# EAGLE library part MSK1658 (library con-stocko)
PIN HEADER
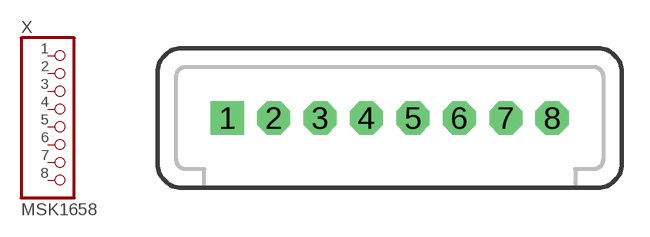
[diagram p0: symbol with the pads of MKS1658; footprint MKS1658]

Designator prefix X

## MSK1658  [MKS1658]
1  1  pas
2  2  pas
3  3  pas
4  4  pas
5  5  pas
6  6  pas
7  7  pas
8  8  pas

## Footprint MKS1658 (pad centres in mm)
SMD PIN HEADER - 0.1"
drill 1.016 pad 1.778 square: 1 -8.75,0
drill 1.016 pad 1.778 octagon: 2 -6.25,0; 3 -3.75,0; 4 -1.25,0; 5 1.25,0; 6 3.75,0; 7 6.25,0; 8 8.75,0